# EAGLE library part OPA4197IDR (library opAmp)
36-V, Precision, Rail-to-Rail Input Output, Low Offset Voltage Op Amp Source: Datasheet <http://www.ti.com/lit/gpn/opa4197>
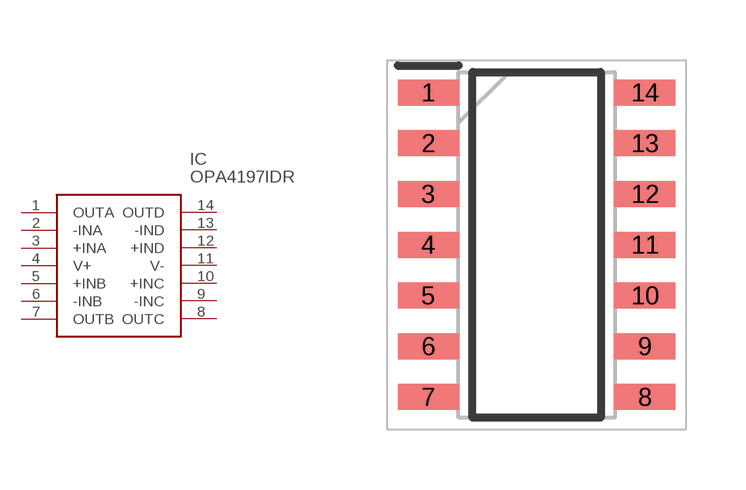
[diagram p0: symbol with the pads of SOIC127P600X175-14N; footprint SOIC127P600X175-14N]

Designator prefix IC

## OPA4197IDR (Description: 36-V, Precision, Rail-to-Rail Input Output, Low Offset Voltage Op Amp; Height: 1.75mm; Manufacturer_Name: Texas Instruments; Manufacturer_Part_Number: OPA4197IDR; Mouser_Part_Number: 595-OPA4197IDR)  [SOIC127P600X175-14N]
1  OUTA  out
2  -INA  in
3  +INA  in
4  V+  pwr
5  +INB  in
6  -INB  in
7  OUTB  out
8  OUTC  out
9  -INC  in
10  +INC  in
11  V-  pwr
12  +IND  in
13  -IND  in
14  OUTD  out

## Footprint SOIC127P600X175-14N (pad centres in mm)
D(R-PDSO-G14)
smd 1.525 x 0.65: 1 -2.712,3.81; 2 -2.712,2.54; 3 -2.712,1.27; 4 -2.712,0; 5 -2.712,-1.27; 6 -2.712,-2.54; 7 -2.712,-3.81; 8 2.712,-3.81; 9 2.712,-2.54; 10 2.712,-1.27; 11 2.712,0; 12 2.712,1.27; 13 2.712,2.54; 14 2.712,3.81